# Altium schematic symbol library STM32schlib.SchLib: 10 symbols
Pins are listed as number, name and electrical type; pins without a type are passive.

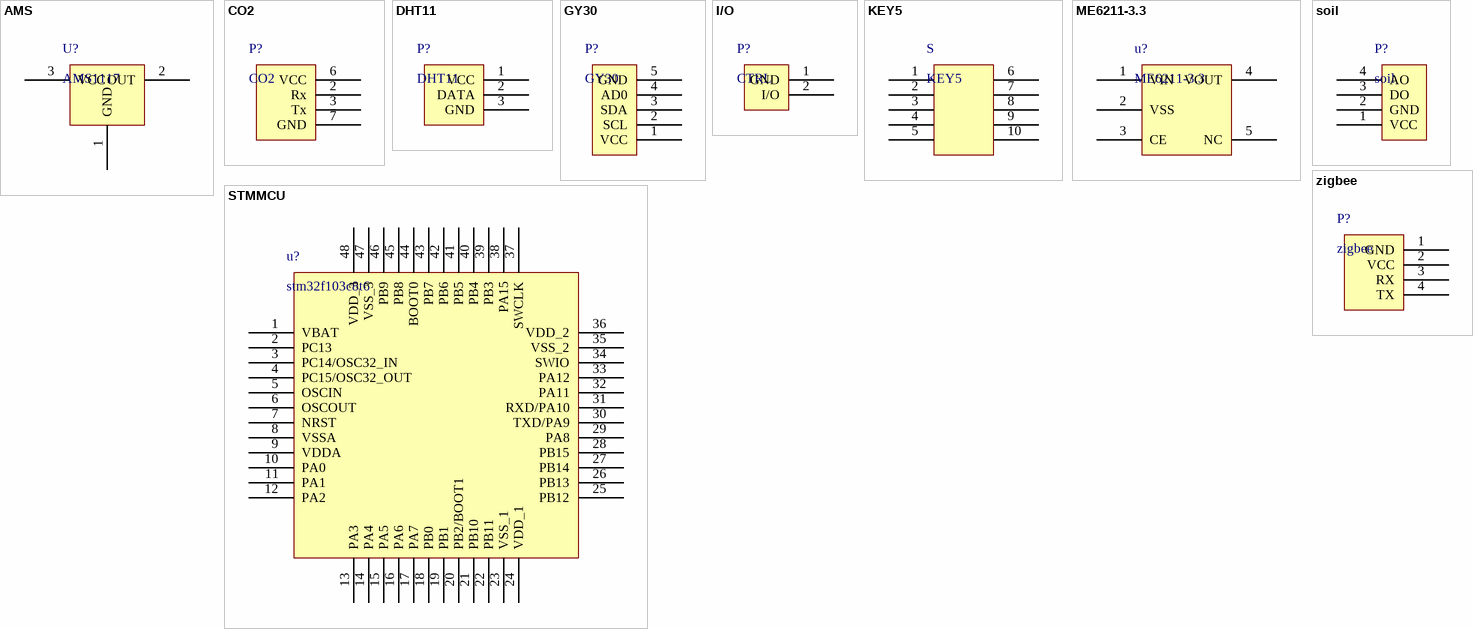
[diagram p0: symbols AMS to zigbee]

## AMS
designator U?, comment AMS1117
footprint SOT223
pins: 1 GND, 2 OUT, 3 VCC

## CO2
designator P?
footprint CO2
pins: 2 Rx, 3 Tx, 6 VCC, 7 GND

## DHT11
designator P?
footprint DHT11
pins: 1 VCC, 2 DATA, 3 GND

## GY30
designator P?
footprint GY30
pins: 1 VCC, 2 SCL, 3 SDA, 4 AD0, 5 GND

## I/O
designator P?, comment CTRL
pins: 1 GND, 2 I/O

## KEY5
designator S
pins: 1, 2, 3, 4, 5, 6, 7, 8, 9, 10

## ME6211-3.3
designator u?
footprint Model Name (Footprint not found)
pins: 1 VIN, 2 VSS, 3 CE, 4 VOUT, 5 NC

## soil
designator P?
footprint SOIL (soil)
pins: 1 VCC, 2 GND, 3 DO, 4 AO

## STMMCU
designator u?, comment stm32f103c8t6
footprint c8t6
pins: 1 VBAT, 2 PC13, 3 PC14/OSC32_IN, 4 PC15/OSC32_OUT, 5 OSCIN, 6 OSCOUT, 7 NRST, 8 VSSA, 9 VDDA, 10 PA0, 11 PA1, 12 PA2, 13 PA3, 14 PA4, 15 PA5, 16 PA6, 17 PA7, 18 PB0, 19 PB1, 20 PB2/BOOT1, 21 PB10, 22 PB11, 23 VSS_1, 24 VDD_1, 25 PB12, 26 PB13, 27 PB14, 28 PB15, 29 PA8, 30 TXD/PA9, 31 RXD/PA10, 32 PA11, 33 PA12, 34 SWIO, 35 VSS_2, 36 VDD_2, 37 SWCLK, 38 PA15, 39 PB3, 40 PB4, 41 PB5, 42 PB6, 43 PB7, 44 BOOT0, 45 PB8, 46 PB9, 47 VSS_3, 48 VDD_3

## zigbee
designator P?
footprint Zigbee
pins: 1 GND, 2 VCC, 3 RX, 4 TX